# Altium schematic symbol library TVS_1x4.SchLib: 1 symbol
Pins are listed as number, name and electrical type; pins without a type are passive.

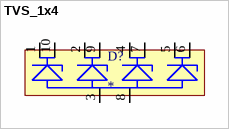
[diagram p0: symbol TVS_1x4]

## TVS_1x4
designator D?
pins: 1, 2, 3, 4, 5, 6, 7, 8, 9, 10